# Altium integrated library 675031020.IntLib: 1 symbol
Pins are listed as number, name and electrical type; pins without a type are passive.

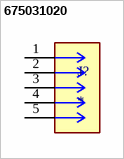
[diagram p0: symbol 675031020]

## 675031020
designator J?
USB - mini B USB 2.0 OTG Receptacle Connector 5 Position Surface Mount, Right Angle; MF: Molex; MP: 675031020; SnapEDA_Link: https://www.snapeda.com/parts/675031020/Molex/view-part/?ref=snap; Package: None; Value: *; Check_prices: https://www.snapeda.com/parts/675031020/Molex/view-part/?ref=eda
footprint CON00317_5_MOL
pins: 1, 2, 3, 4, 5